# Altium schematic symbol library SCH - MCU - ATSAM - MICROCHIP SAM9X60D6K-CU BGA196.SchLib: 1 symbol
Pins are listed as number, name and electrical type; pins without a type are passive.

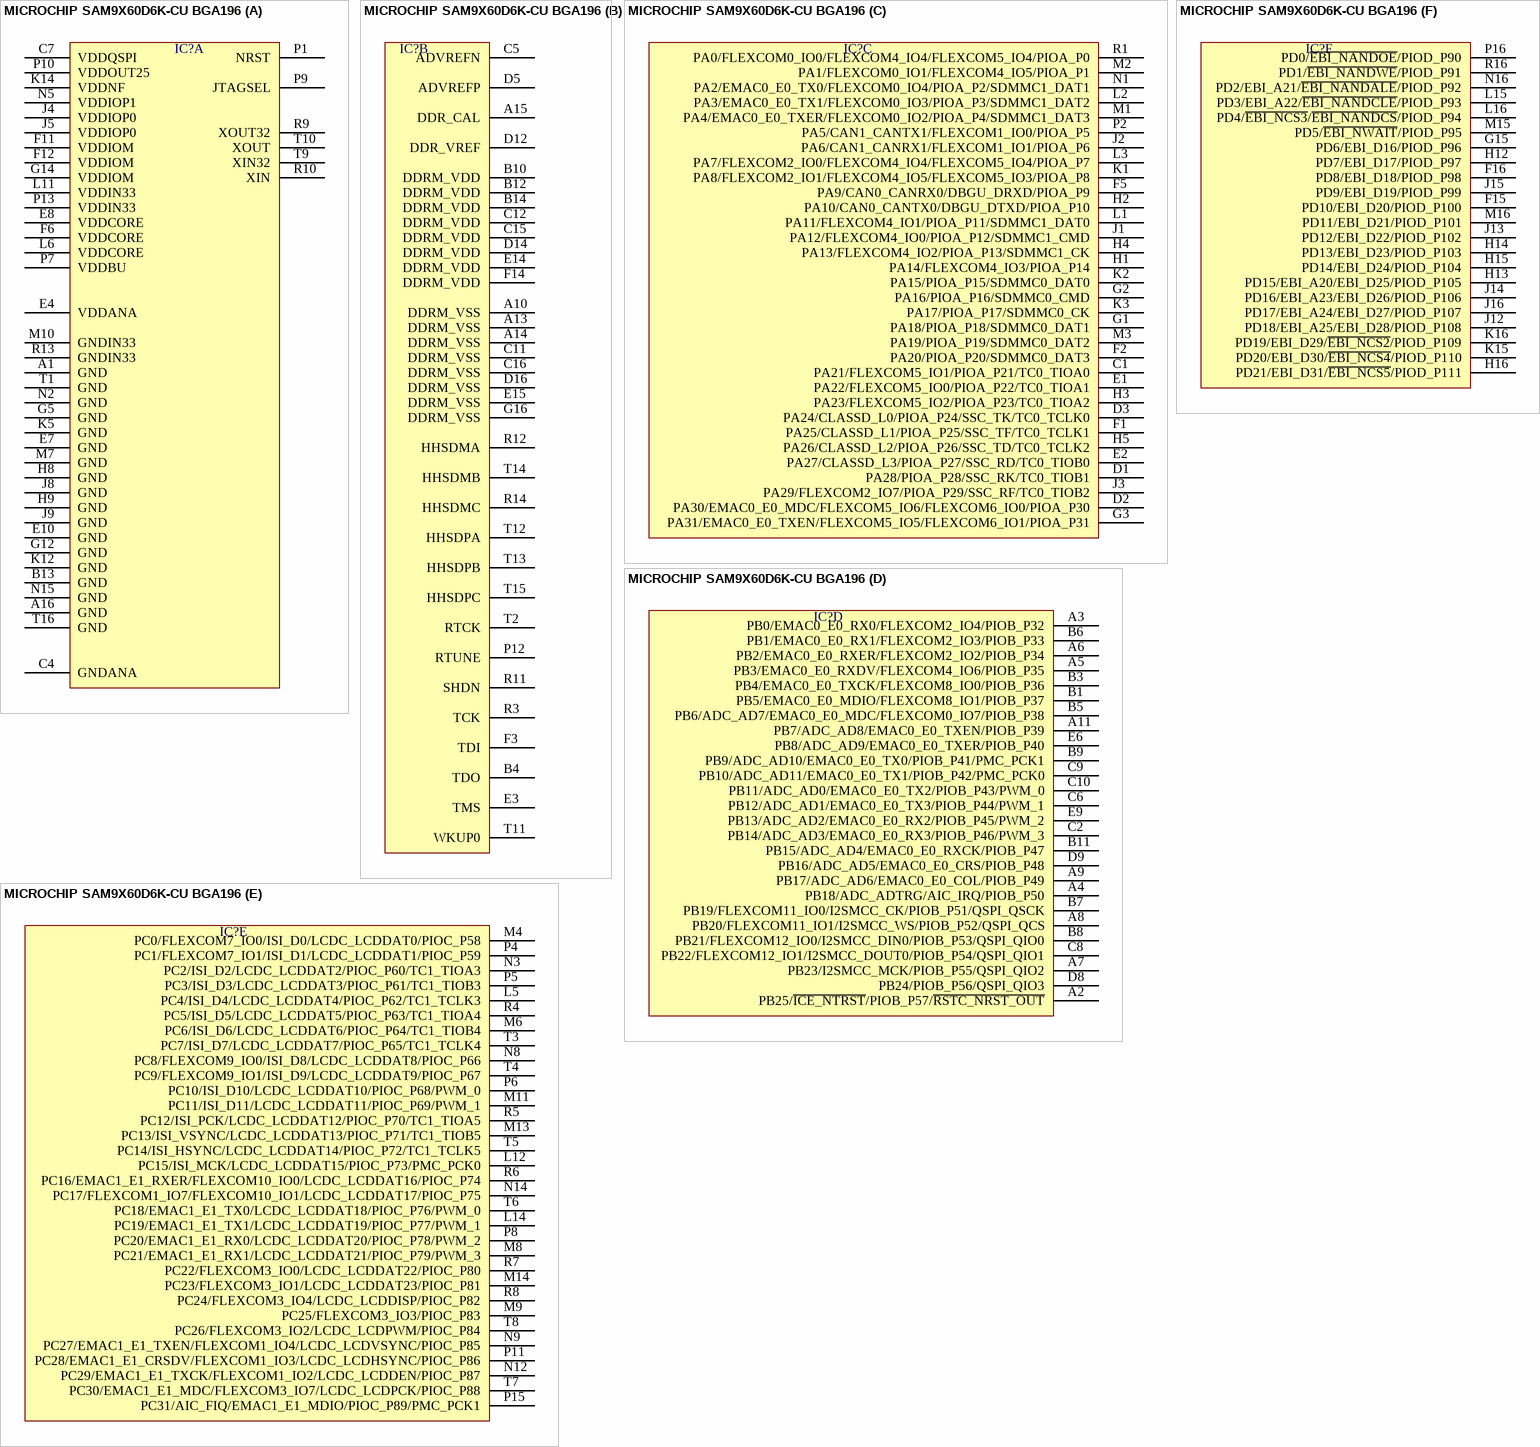
[diagram p0: symbol MICROCHIP SAM9X60D6K-CU BGA196]

## MICROCHIP SAM9X60D6K-CU BGA196
designator IC?  (value not drawn)
part A pins: A1 GND, A16 GND, B13 GND, C4 GNDANA, C7 VDDQSPI, E4 VDDANA, E7 GND, E8 VDDCORE, E10 GND, F6 VDDCORE, F11 VDDIOM, F12 VDDIOM, G5 GND, G12 GND, G14 VDDIOM, H8 GND, H9 GND, J4 VDDIOP0, J5 VDDIOP0, J8 GND, J9 GND, K5 GND, K12 GND, K14 VDDNF, L6 VDDCORE, L11 VDDIN33, M7 GND, M10 GNDIN33, N2 GND, N5 VDDIOP1, N15 GND, P1 NRST, P7 VDDBU, P9 JTAGSEL, P10 VDDOUT25, P13 VDDIN33, R9 XOUT32, R10 XIN, R13 GNDIN33, T1 GND, T9 XIN32, T10 XOUT, T16 GND
part B pins: A10 DDRM_VSS, A13 DDRM_VSS, A14 DDRM_VSS, A15 DDR_CAL, B4 TDO, B10 DDRM_VDD, B12 DDRM_VDD, B14 DDRM_VDD, C5 ADVREFN, C11 DDRM_VSS, C12 DDRM_VDD, C15 DDRM_VDD, C16 DDRM_VSS, D5 ADVREFP, D12 DDR_VREF, D14 DDRM_VDD, D16 DDRM_VSS, E3 TMS, E14 DDRM_VDD, E15 DDRM_VSS, F3 TDI, F14 DDRM_VDD, G16 DDRM_VSS, P12 RTUNE, R3 TCK, R11 SHDN, R12 HHSDMA, R14 HHSDMC, T2 RTCK, T11 WKUP0, T12 HHSDPA, T13 HHSDPB, T14 HHSDMB, T15 HHSDPC
part C pins: C1 PA21/FLEXCOM5_IO1/PIOA_P21/TC0_TIOA0, D1 PA28/PIOA_P28/SSC_RK/TC0_TIOB1, D2 PA30/EMAC0_E0_MDC/FLEXCOM5_IO6/FLEXCOM6_IO0/PIOA_P30, D3 PA24/CLASSD_L0/PIOA_P24/SSC_TK/TC0_TCLK0, E1 PA22/FLEXCOM5_IO0/PIOA_P22/TC0_TIOA1, E2 PA27/CLASSD_L3/PIOA_P27/SSC_RD/TC0_TIOB0, F1 PA25/CLASSD_L1/PIOA_P25/SSC_TF/TC0_TCLK1, F2 PA20/PIOA_P20/SDMMC0_DAT3, F5 PA9/CAN0_CANRX0/DBGU_DRXD/PIOA_P9, G1 PA18/PIOA_P18/SDMMC0_DAT1, G2 PA16/PIOA_P16/SDMMC0_CMD, G3 PA31/EMAC0_E0_TXEN/FLEXCOM5_IO5/FLEXCOM6_IO1/PIOA_P31, H1 PA14/FLEXCOM4_IO3/PIOA_P14, H2 PA10/CAN0_CANTX0/DBGU_DTXD/PIOA_P10, H3 PA23/FLEXCOM5_IO2/PIOA_P23/TC0_TIOA2, H4 PA13/FLEXCOM4_IO2/PIOA_P13/SDMMC1_CK, H5 PA26/CLASSD_L2/PIOA_P26/SSC_TD/TC0_TCLK2, J1 PA12/FLEXCOM4_IO0/PIOA_P12/SDMMC1_CMD, J2 PA6/CAN1_CANRX1/FLEXCOM1_IO1/PIOA_P6, J3 PA29/FLEXCOM2_IO7/PIOA_P29/SSC_RF/TC0_TIOB2, K1 PA8/FLEXCOM2_IO1/FLEXCOM4_IO5/FLEXCOM5_IO3/PIOA_P8, K2 PA15/PIOA_P15/SDMMC0_DAT0, K3 PA17/PIOA_P17/SDMMC0_CK, L1 PA11/FLEXCOM4_IO1/PIOA_P11/SDMMC1_DAT0, L2 PA3/EMAC0_E0_TX1/FLEXCOM0_IO3/PIOA_P3/SDMMC1_DAT2, L3 PA7/FLEXCOM2_IO0/FLEXCOM4_IO4/FLEXCOM5_IO4/PIOA_P7, M1 PA4/EMAC0_E0_TXER/FLEXCOM0_IO2/PIOA_P4/SDMMC1_DAT3, M2 PA1/FLEXCOM0_IO1/FLEXCOM4_IO5/PIOA_P1, M3 PA19/PIOA_P19/SDMMC0_DAT2, N1 PA2/EMAC0_E0_TX0/FLEXCOM0_IO4/PIOA_P2/SDMMC1_DAT1, P2 PA5/CAN1_CANTX1/FLEXCOM1_IO0/PIOA_P5, R1 PA0/FLEXCOM0_IO0/FLEXCOM4_IO4/FLEXCOM5_IO4/PIOA_P0
part D pins: A2 PB25/~{ICE_NTRST}/PIOB_P57/~{RSTC_NRST_OUT}, A3 PB0/EMAC0_E0_RX0/FLEXCOM2_IO4/PIOB_P32, A4 PB18/ADC_ADTRG/AIC_IRQ/PIOB_P50, A5 PB3/EMAC0_E0_RXDV/FLEXCOM4_IO6/PIOB_P35, A6 PB2/EMAC0_E0_RXER/FLEXCOM2_IO2/PIOB_P34, A7 PB23/I2SMCC_MCK/PIOB_P55/QSPI_QIO2, A8 PB20/FLEXCOM11_IO1/I2SMCC_WS/PIOB_P52/QSPI_QCS, A9 PB17/ADC_AD6/EMAC0_E0_COL/PIOB_P49, A11 PB7/ADC_AD8/EMAC0_E0_TXEN/PIOB_P39, B1 PB5/EMAC0_E0_MDIO/FLEXCOM8_IO1/PIOB_P37, B3 PB4/EMAC0_E0_TXCK/FLEXCOM8_IO0/PIOB_P36, B5 PB6/ADC_AD7/EMAC0_E0_MDC/FLEXCOM0_IO7/PIOB_P38, B6 PB1/EMAC0_E0_RX1/FLEXCOM2_IO3/PIOB_P33, B7 PB19/FLEXCOM11_IO0/I2SMCC_CK/PIOB_P51/QSPI_QSCK, B8 PB21/FLEXCOM12_IO0/I2SMCC_DIN0/PIOB_P53/QSPI_QIO0, B9 PB9/ADC_AD10/EMAC0_E0_TX0/PIOB_P41/PMC_PCK1, B11 PB15/ADC_AD4/EMAC0_E0_RXCK/PIOB_P47, C2 PB14/ADC_AD3/EMAC0_E0_RX3/PIOB_P46/PWM_3, C6 PB12/ADC_AD1/EMAC0_E0_TX3/PIOB_P44/PWM_1, C8 PB22/FLEXCOM12_IO1/I2SMCC_DOUT0/PIOB_P54/QSPI_QIO1, C9 PB10/ADC_AD11/EMAC0_E0_TX1/PIOB_P42/PMC_PCK0, C10 PB11/ADC_AD0/EMAC0_E0_TX2/PIOB_P43/PWM_0, D8 PB24/PIOB_P56/QSPI_QIO3, D9 PB16/ADC_AD5/EMAC0_E0_CRS/PIOB_P48, E6 PB8/ADC_AD9/EMAC0_E0_TXER/PIOB_P40, E9 PB13/ADC_AD2/EMAC0_E0_RX2/PIOB_P45/PWM_2
part E pins: L5 PC4/ISI_D4/LCDC_LCDDAT4/PIOC_P62/TC1_TCLK3, L12 PC15/ISI_MCK/LCDC_LCDDAT15/PIOC_P73/PMC_PCK0, L14 PC19/EMAC1_E1_TX1/LCDC_LCDDAT19/PIOC_P77/PWM_1, M4 PC0/FLEXCOM7_IO0/ISI_D0/LCDC_LCDDAT0/PIOC_P58, M6 PC6/ISI_D6/LCDC_LCDDAT6/PIOC_P64/TC1_TIOB4, M8 PC21/EMAC1_E1_RX1/LCDC_LCDDAT21/PIOC_P79/PWM_3, M9 PC25/FLEXCOM3_IO3/PIOC_P83, M11 PC11/ISI_D11/LCDC_LCDDAT11/PIOC_P69/PWM_1, M13 PC13/ISI_VSYNC/LCDC_LCDDAT13/PIOC_P71/TC1_TIOB5, M14 PC23/FLEXCOM3_IO1/LCDC_LCDDAT23/PIOC_P81, N3 PC2/ISI_D2/LCDC_LCDDAT2/PIOC_P60/TC1_TIOA3, N8 PC8/FLEXCOM9_IO0/ISI_D8/LCDC_LCDDAT8/PIOC_P66, N9 PC27/EMAC1_E1_TXEN/FLEXCOM1_IO4/LCDC_LCDVSYNC/PIOC_P85, N12 PC29/EMAC1_E1_TXCK/FLEXCOM1_IO2/LCDC_LCDDEN/PIOC_P87, N14 PC17/FLEXCOM1_IO7/FLEXCOM10_IO1/LCDC_LCDDAT17/PIOC_P75, P4 PC1/FLEXCOM7_IO1/ISI_D1/LCDC_LCDDAT1/PIOC_P59, P5 PC3/ISI_D3/LCDC_LCDDAT3/PIOC_P61/TC1_TIOB3, P6 PC10/ISI_D10/LCDC_LCDDAT10/PIOC_P68/PWM_0, P8 PC20/EMAC1_E1_RX0/LCDC_LCDDAT20/PIOC_P78/PWM_2, P11 PC28/EMAC1_E1_CRSDV/FLEXCOM1_IO3/LCDC_LCDHSYNC/PIOC_P86, P15 PC31/AIC_FIQ/EMAC1_E1_MDIO/PIOC_P89/PMC_PCK1, R4 PC5/ISI_D5/LCDC_LCDDAT5/PIOC_P63/TC1_TIOA4, R5 PC12/ISI_PCK/LCDC_LCDDAT12/PIOC_P70/TC1_TIOA5, R6 PC16/EMAC1_E1_RXER/FLEXCOM10_IO0/LCDC_LCDDAT16/PIOC_P74, R7 PC22/FLEXCOM3_IO0/LCDC_LCDDAT22/PIOC_P80, R8 PC24/FLEXCOM3_IO4/LCDC_LCDDISP/PIOC_P82, T3 PC7/ISI_D7/LCDC_LCDDAT7/PIOC_P65/TC1_TCLK4, T4 PC9/FLEXCOM9_IO1/ISI_D9/LCDC_LCDDAT9/PIOC_P67, T5 PC14/ISI_HSYNC/LCDC_LCDDAT14/PIOC_P72/TC1_TCLK5, T6 PC18/EMAC1_E1_TX0/LCDC_LCDDAT18/PIOC_P76/PWM_0, T7 PC30/EMAC1_E1_MDC/FLEXCOM3_IO7/LCDC_LCDPCK/PIOC_P88, T8 PC26/FLEXCOM3_IO2/LCDC_LCDPWM/PIOC_P84
part F pins: F15 PD10/EBI_D20/PIOD_P100, F16 PD8/EBI_D18/PIOD_P98, G15 PD6/EBI_D16/PIOD_P96, H12 PD7/EBI_D17/PIOD_P97, H13 PD15/EBI_A20/EBI_D25/PIOD_P105, H14 PD13/EBI_D23/PIOD_P103, H15 PD14/EBI_D24/PIOD_P104, H16 PD21/EBI_D31/~{EBI_NCS5}/PIOD_P111, J12 PD18/EBI_A25/EBI_D28/PIOD_P108, J13 PD12/EBI_D22/PIOD_P102, J14 PD16/EBI_A23/EBI_D26/PIOD_P106, J15 PD9/EBI_D19/PIOD_P99, J16 PD17/EBI_A24/EBI_D27/PIOD_P107, K15 PD20/EBI_D30/~{EBI_NCS4}/PIOD_P110, K16 PD19/EBI_D29/~{EBI_NCS2}/PIOD_P109, L15 PD3/EBI_A22/~{EBI_NANDCLE}/PIOD_P93, L16 PD4/~{EBI_NCS3}/~{EBI_NANDCS}/PIOD_P94, M15 PD5/~{EBI_NWAIT}/PIOD_P95, M16 PD11/EBI_D21/PIOD_P101, N16 PD2/EBI_A21/~{EBI_NANDALE}/PIOD_P92, P16 PD0/~{EBI_NANDOE}/PIOD_P90, R16 PD1/~{EBI_NANDWE}/PIOD_P91